# EAGLE library part MOLEX_43860-0004 (library Traficon)
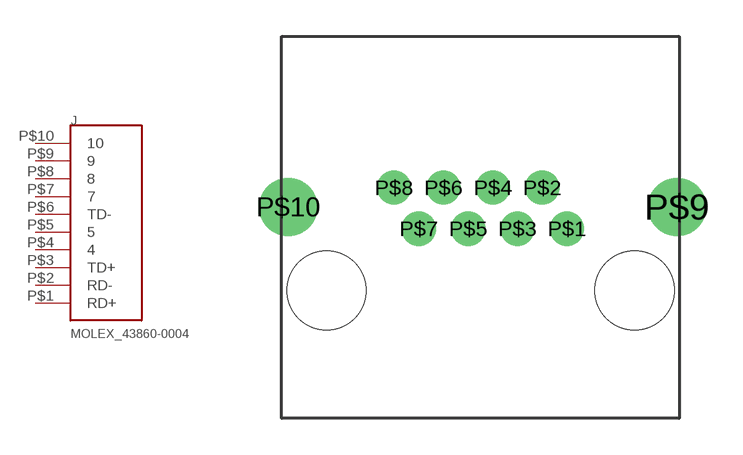
[diagram p214: symbol with the pads of MOLEX_43860-0004; footprint MOLEX_43860-0004]

Designator prefix J

## MOLEX_43860-0004  [MOLEX_43860-0004]
P$1  RD+  pas
P$2  RD-  pas
P$3  TD+  pas
P$4  4  pas
P$5  5  pas
P$6  TD-  pas
P$7  7  pas
P$8  8  pas
P$9  9  pas
P$10  10  pas

## Footprint MOLEX_43860-0004 (pad centres in mm)
drill 0.9 round: P$1 -2.79,2.54; P$2 -3.81,4.23; P$3 -4.83,2.54; P$4 -5.84,4.23; P$5 -6.86,2.54; P$6 -7.88,4.23; P$7 -8.9,2.54; P$8 -9.92,4.23
drill 1.6 round: P$9 1.75,3.43; P$10 -14.27,3.43
hole 3.25 at 0,0
hole 3.25 at -12.7,0